# Altium integrated library Allegro RF and IF Radio Receiver Circuit.IntLib: 2 symbols
Pins are listed as number, name and electrical type; pins without a type are passive.

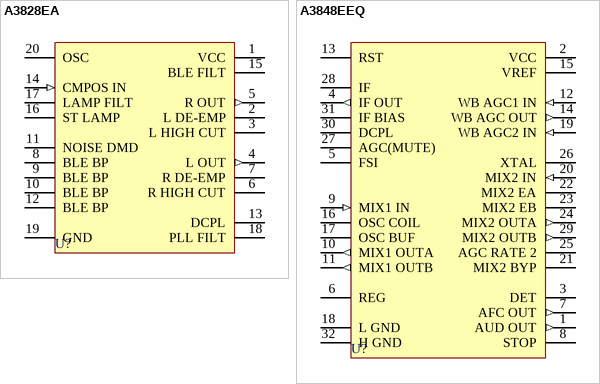
[diagram p0: symbols A3828EA to A3848EEQ]

## A3828EA
designator U?
FM Stereo Decoder; ComponentAvailability: Obsolete; Published: 13-Oct-2000; LatestRevisionDate: 06-Jun-2005; LatestRevisionNote: Stylized 3D Model Added.; DatasheetVersion: 1995; PackageVersion: 1995; PackageReference: A20; Publisher: Altium Limited; PackageDescription: DIP; 20 Leads; Row Spacing 7.62 mm; Pitch 2.54 mm; Code_JEDEC: MS-001-AD; ComponentLink1Description: Manufacturer Link; ComponentLink1URL: http://www.allegromicro.com/
footprint A20 (DIP; 20 Leads; Row Spacing 7.62 mm; Pitch 2.54 mm)
3D model A20 (DIP; 20 Leads; Row Spacing 7.62 mm; Pitch 2.54 mm)
pins: 1 VCC (power), 2 L DE-EMP, 3 L HIGH CUT, 4 L OUT (out), 5 R OUT (out), 6 R HIGH CUT, 7 R DE-EMP, 8 BLE BP, 9 BLE BP, 10 BLE BP, 11 NOISE DMD, 12 BLE BP, 13 DCPL, 14 CMPOS IN (in), 15 BLE FILT, 16 ST LAMP, 17 LAMP FILT, 18 PLL FILT, 19 GND (power), 20 OSC

## A3848EEQ
designator U?
Dual-Conversion AM Receiver; ComponentAvailability: Obsolete; Published: 13-Oct-2000; LatestRevisionDate: 06-Jun-2005; LatestRevisionNote: Stylized 3D Model Added.; DatasheetVersion: 1995; PackageVersion: 1995; PackageReference: EQ32; Publisher: Altium Limited; PackageDescription: Leaded Chip Carrier; 32 Leads; Body 11.4 x 14 mm; Code_JEDEC: MS-016-AE; Code_IPC: PLCC/R-32; ComponentLink1Description: Manufacturer Link; ComponentLink1URL: http://www.allegromicro.com/; ComponentLink2Description: Datasheet; ComponentLink2URL: http://www.allegromicro.com/datafile/archive/3848.pdf
footprint EQ32 (Leaded Chip Carrier; 32 Leads; Body 11.4 x 14 mm)
3D model A3848-EQ32 (Leaded Chip Carrier; 32 Leads; Body 11.4 x 14 mm)
pins: 1 AUD OUT (out), 2 VCC (power), 3 DET, 4 IF OUT (out), 5 FSI, 6 REG, 7 AFC OUT (out), 8 STOP, 9 MIX1 IN (in), 10 MIX1 OUTA (out), 11 MIX1 OUTB (out), 12 WB AGC1 IN (in), 13 RST, 14 WB AGC OUT (out), 15 VREF, 16 OSC COIL, 17 OSC BUF, 18 L GND (power), 19 WB AGC2 IN (in), 20 MIX2 IN (in), 21 MIX2 BYP, 22 MIX2 EA, 23 MIX2 EB, 24 MIX2 OUTA (out), 25 AGC RATE 2, 26 XTAL, 27 AGC(MUTE), 28 IF, 29 MIX2 OUTB (out), 30 DCPL, 31 IF BIAS, 32 H GND (power)